# EAGLE library part NUMLED (library isysbus_active)
Kingbright 10mm (0.39 inch) Single Digit Numeric Display Source: SC39-11YWA.pdf
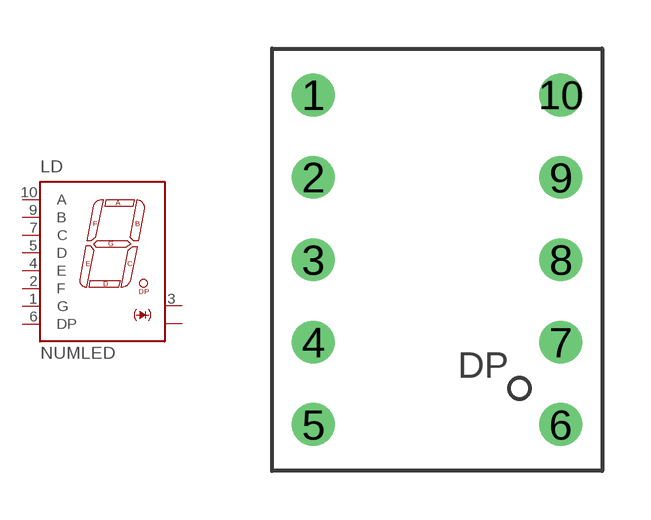
[diagram p0: symbol with the pads of SA08-21; footprint SA08-21]

Designator prefix LD

## NUMLED  [SA08-21]
1  G  pas
2  F  pas
3  K  pas
4  E  pas
5  D  pas
6  DP  pas
7  C  pas
8  K  pas
9  B  pas
10  A  pas

## Footprint SA08-21 (pad centres in mm)
Single Digit Numeric Display 20mm (0.8 Inch) Source: Kingbright .. SA08-11SRWA.pdf
drill 0.813 round: 1 -3.81,5.08; 2 -3.81,2.54; 3 -3.81,0; 4 -3.81,-2.54; 5 -3.81,-5.08; 6 3.81,-5.08; 7 3.81,-2.54; 8 3.81,0; 9 3.81,2.54; 10 3.81,5.08